# EAGLE library part CUBE_ORANGE (library misc)
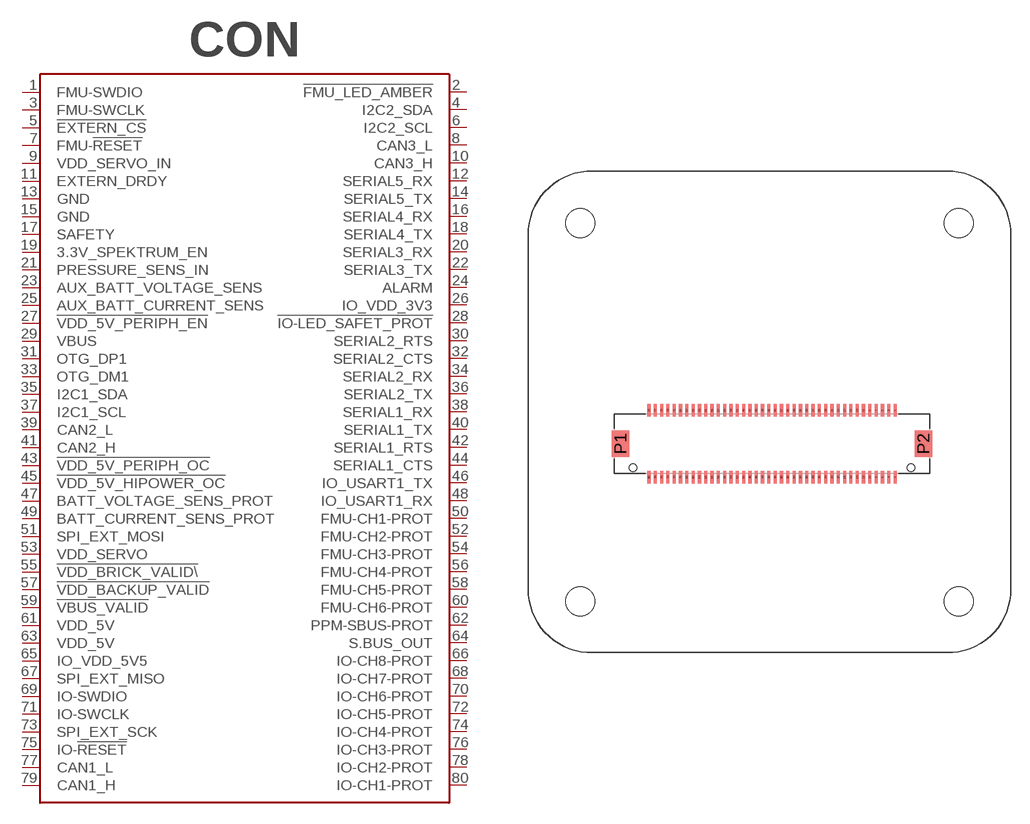
[diagram p7: symbol with the pads of CUBE_ORANGE; footprint CUBE_ORANGE]

Designator prefix CON

## CUBE_ORANGE_ (MANF: HIROSE; MANF#: DF17(1.0H)-80DP-0.5V(57))  [CUBE_ORANGE]
1  FMU-SWDIO
2  !FMU_LED_AMBER
3  FMU-SWCLK
4  I2C2_SDA
5  !EXTERN_CS
6  I2C2_SCL
7  FMU-!RESET
8  CAN3_L
9  VDD_SERVO_IN
10  CAN3_H
11  EXTERN_DRDY
12  SERIAL5_RX
13  GND
14  SERIAL5_TX
15  GND
16  SERIAL4_RX
17  SAFETY
18  SERIAL4_TX
19  3.3V_SPEKTRUM_EN
20  SERIAL3_RX
21  PRESSURE_SENS_IN
22  SERIAL3_TX
23  AUX_BATT_VOLTAGE_SENS
24  ALARM
25  AUX_BATT_CURRENT_SENS
26  IO_VDD_3V3
27  !VDD_5V_PERIPH_EN
28  !IO-LED_SAFET_PROT
29  VBUS
30  SERIAL2_RTS
31  OTG_DP1
32  SERIAL2_CTS
33  OTG_DM1
34  SERIAL2_RX
35  I2C1_SDA
36  SERIAL2_TX
37  I2C1_SCL
38  SERIAL1_RX
39  CAN2_L
40  SERIAL1_TX
41  CAN2_H
42  SERIAL1_RTS
43  !VDD_5V_PERIPH_OC
44  SERIAL1_CTS
45  !VDD_5V_HIPOWER_OC
46  IO_USART1_TX
47  BATT_VOLTAGE_SENS_PROT
48  IO_USART1_RX
49  BATT_CURRENT_SENS_PROT
50  FMU-CH1-PROT
51  SPI_EXT_MOSI
52  FMU-CH2-PROT
53  VDD_SERVO
54  FMU-CH3-PROT
55  !VDD_BRICK_VALID\
56  FMU-CH4-PROT
57  !VDD_BACKUP_VALID
58  FMU-CH5-PROT
59  !VBUS_VALID
60  FMU-CH6-PROT
61  VDD_5V
62  PPM-SBUS-PROT
63  VDD_5V
64  S.BUS_OUT
65  IO_VDD_5V5
66  IO-CH8-PROT
67  SPI_EXT_MISO
68  IO-CH7-PROT
69  IO-SWDIO
70  IO-CH6-PROT
71  IO-SWCLK
72  IO-CH5-PROT
73  SPI_EXT_SCK
74  IO-CH4-PROT
75  IO-!RESET
76  IO-CH3-PROT
77  CAN1_L
78  IO-CH2-PROT
79  CAN1_H
80  IO-CH1-PROT

## Footprint CUBE_ORANGE (pad centres in mm)
Datasheet <https://www.hirose.com/en/product/document?clcode=CL0683-0373-4-57&productname=DF17(1.0H)-80DP-0.5V(57)&series=DF17&documenttype=2DDrawing&lang=en&documentid=0000996696>
smd 0.25 x 1: 1 9.75,2.65; 2 9.75,-2.65; 3 9.25,2.65; 4 9.25,-2.65; 5 8.75,2.65; 6 8.75,-2.65; 7 8.25,2.65; 8 8.25,-2.65; 9 7.75,2.65; 10 7.75,-2.65; 11 7.25,2.65; 12 7.25,-2.65; 13 6.75,2.65; 14 6.75,-2.65; 15 6.25,2.65; 16 6.25,-2.65; 17 5.75,2.65; 18 5.75,-2.65; 19 5.25,2.65; 20 5.25,-2.65; 21 4.75,2.65; 22 4.75,-2.65; 23 4.25,2.65; 24 4.25,-2.65; 25 3.75,2.65; 26 3.75,-2.65; 27 3.25,2.65; 28 3.25,-2.65; 29 2.75,2.65; 30 2.75,-2.65; 31 2.25,2.65; 32 2.25,-2.65; 33 1.75,2.65; 34 1.75,-2.65; 35 1.25,2.65; 36 1.25,-2.65; 37 0.75,2.65; 38 0.75,-2.65; 39 0.25,2.65; 40 0.25,-2.65; 41 -0.25,2.65; 42 -0.25,-2.65; 43 -0.75,2.65; 44 -0.75,-2.65; 45 -1.25,2.65; 46 -1.25,-2.65; 47 -1.75,2.65; 48 -1.75,-2.65; 49 -2.25,2.65; 50 -2.25,-2.65; 51 -2.75,2.65; 52 -2.75,-2.65; 53 -3.25,2.65; 54 -3.25,-2.65; 55 -3.75,2.65; 56 -3.75,-2.65; 57 -4.25,2.65; 58 -4.25,-2.65; 59 -4.75,2.65; 60 -4.75,-2.65; 61 -5.25,2.65; 62 -5.25,-2.65; 63 -5.75,2.65; 64 -5.75,-2.65; 65 -6.25,2.65; 66 -6.25,-2.65; 67 -6.75,2.65; 68 -6.75,-2.65; 69 -7.25,2.65; 70 -7.25,-2.65; 71 -7.75,2.65; 72 -7.75,-2.65; 73 -8.25,2.65; 74 -8.25,-2.65; 75 -8.75,2.65; 76 -8.75,-2.65; 77 -9.25,2.65; 78 -9.25,-2.65; 79 -9.75,2.65; 80 -9.75,-2.65
smd 1.4 x 2.1: P1 -12,0; P2 12,0
hole 0.6 at -11,-1.9
hole 0.6 at 11,-1.9
hole 2.3 at -15.2,17.5
hole 2.3 at 14.8,17.5
hole 2.3 at 14.8,-12.5
hole 2.3 at -15.2,-12.5